# Altium schematic symbol library NDC7002N.SchLib: 1 symbol
Pins are listed as number, name and electrical type; pins without a type are passive.

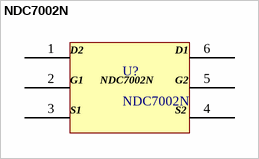
[diagram p0: symbol NDC7002N]

## NDC7002N
designator U?
pins: 1, 2, 3, 4, 5, 6
text: D2; D1; G1; G2; S1; S2